# EAGLE library part LT3426 (library adafruit (2))
LT3426 1.2MHz, 2A boost converter in SOT-23 http://www.linear.com/pc/productDetail.jsp?navId=H0,C1,C1003,C1042,C1031,C1061,P8430 (Linear website)
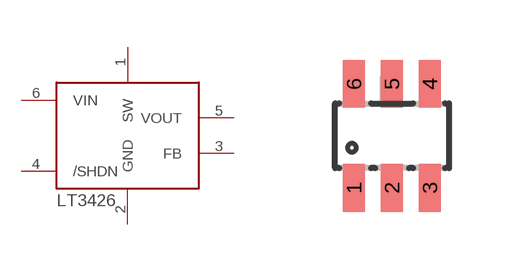
[diagram p42: symbol with the pads of SOT23-6; footprint SOT23-6]

Designator prefix -

## LT3426  [SOT23-6]
1  SW  out
2  GND  sup
3  FB  in
4  /SHDN  in
5  VOUT  out
6  VIN  in

## Footprint SOT23-6 (pad centres in mm)
smd 0.55 x 1.2: 1 -0.95,-1.3; 2 0,-1.3; 3 0.95,-1.3; 4 0.95,1.3; 5 0,1.3; 6 -0.95,1.3